# Altium footprint library Pattern No3d 20090609.PcbLib: 323 footprints (part 19 of 22)
Each footprint in its own frame and in the unit in brackets; x right, y up, seen from the top. Pads: shape width x height; smd on the part's side, far side on the other; paste and mask are expansions set on the pad; w line width, h text height; cw(c..) or ccw(c..) is an arc to the next point about the centre after c.
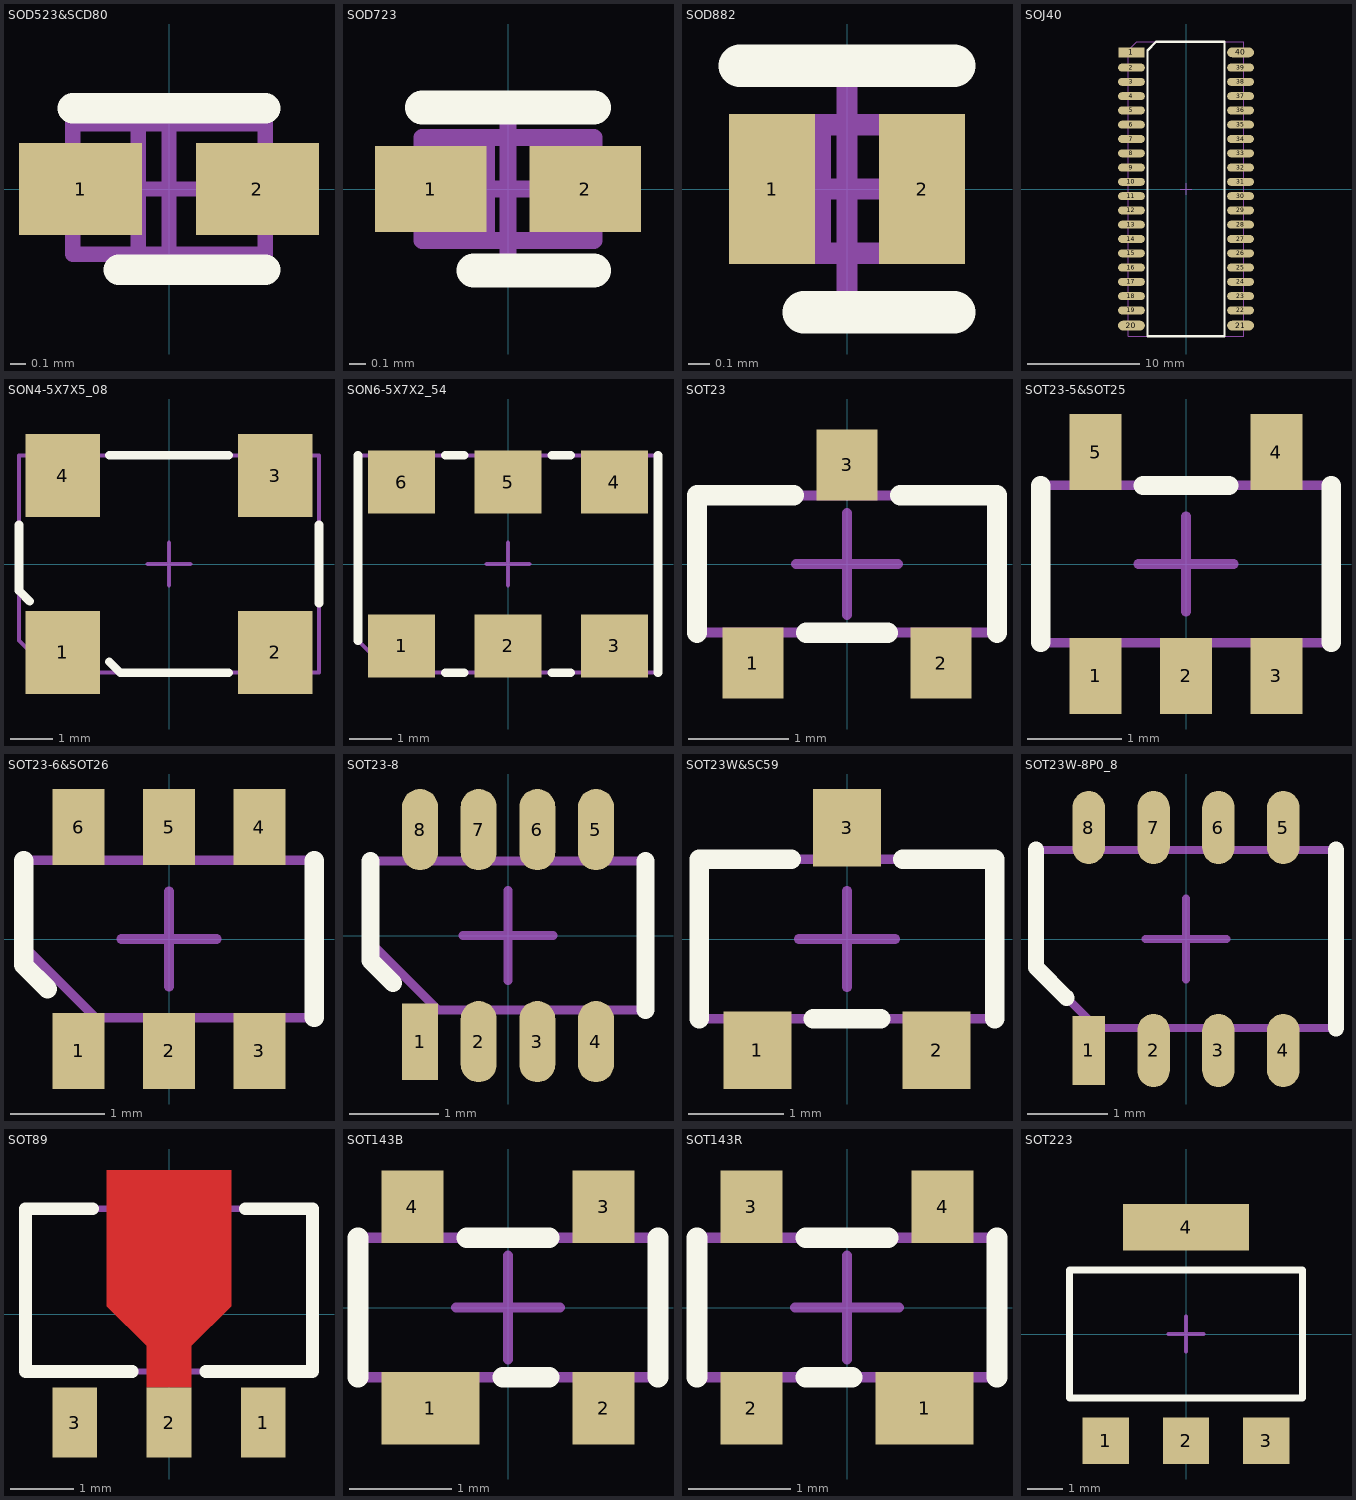
[diagram p18: the footprints below, top view; thin cyan lines are the x and y axes]

## SOD523&SCD80 [mil] "http://www.nxp.com/acrobat_download/packages/SOD523.pdf"
pads (2):
  rect 32x24 smd mask+3: 1(-23,0) 2(23,0)
Top Overlay:
  lines w8: -25,21 25,21 ; -13,-21 25,-21
Mechanical 1:
  lines w4: -8,-17 -8,17 ; -25,-17 25,-17 25,17 -25,17 -25,-17
Mechanical 15:
  lines w4: -20,0 20,0 ; 0,-20 0,20

## SOD723 [mil] "http://www.nxp.com/acrobat_download/packages/SOD723.pdf"
pads (2):
  rect 26x20 smd mask-1000: 1(-18,0) 2(18,0)
Top Overlay:
  lines w8: -20,19 20,19 ; -8,-19 20,-19
Top Solder:
  region: -35,-14 35,-14 35,14 -35,14
Mechanical 1:
  lines w4: -5,-12 -5,12 ; -20,-12 20,-12 20,12 -20,12 -20,-12
Mechanical 15:
  lines w4: -20,0 20,0 ; 0,-20 0,20

## SOD882 [mil] "http://www.nxp.com/acrobat_download/packages/SOD882.pdf"
pads (2):
  rect 16x28 smd mask+3: 1(-14,0) 2(14,0)
Top Overlay:
  lines w8: -20,23 20,23 ; -8,-23 20,-23
Mechanical 1:
  lines w4: -5,-12 -5,12 ; -20,-12 20,-12 20,12 -20,12 -20,-12
Mechanical 15:
  lines w4: -20,0 20,0 ; 0,-20 0,20

## SOJ40 [mil] "http://www.nxp.com/acrobat_download/packages/SOT449-1.pdf"
pads (40):
  rect 92x34 smd mask+4: 1(-191,478)
  oval 94x28 smd mask+4: 2(-191,425) 3(-191,375) 4(-191,325) 5(-191,275) 6(-191,225) 7(-191,175) 8(-191,125) 9(-191,75) 10(-191,25) 11(-191,-25) 12(-191,-75) 13(-191,-125) 14(-191,-175) 15(-191,-225) 16(-191,-275) 17(-191,-325) 18(-191,-375) 19(-191,-425) 22(191,-425) 23(191,-375) 24(191,-325) 25(191,-275) 26(191,-225) 27(191,-175) 28(191,-125) 29(191,-75) 30(191,-25) 31(191,25) 32(191,75) 33(191,125) 34(191,175) 35(191,225) 36(191,275) 37(191,325) 38(191,375) 39(191,425)
  oval 94x34 smd mask+4: 20(-191,-478) 21(191,-478) 40(191,478)
Top Overlay:
  lines w8: -135,-515 -135,485 -105,515 135,515 135,-515 -135,-515
Mechanical 1:
  lines w4: -202,-515 -202,485 -172,515 202,515 202,-515 -202,-515
Mechanical 15:
  lines w4: -20,0 20,0 ; 0,-20 0,20

## SON4-5X7X5_08 [mil] "http://www.jauch-shop.com/ablage-jauch/med_00000465_1187683673_VX3-TF-5V0.pdf"
pads (4):
  rect 70x78 smd mask+4: 1(-100,-83) 2(100,-83) 3(100,83) 4(-100,83)
Top Overlay:
  lines w8: -141,37 -141,-25 -131,-35 ; -56,-92 -46,-102 56,-102 ; -56,102 56,102 ; 141,-37 141,37
Mechanical 1:
  lines w4: -141,-72 -111,-102 141,-102 141,102 -141,102 -141,-72
Mechanical 15:
  lines w4: -20,0 20,0 ; 0,-20 0,20

## SON6-5X7X2_54 [mil] "http://fcp.rakon.com/pdf/cfpv-45_-46.pdf"
pads (6):
  rect 63x59 smd mask+4: 1(-100,-77) 2(0,-77) 3(100,-77) 4(100,77) 5(0,77) 6(-100,77)
Top Overlay:
  lines w8: -141,-72 -141,102 ; -59,-102 -41,-102 ; -59,102 -41,102 ; 41,-102 59,-102 ; 41,102 59,102 ; 141,-102 141,102
Mechanical 1:
  lines w4: -141,-72 -141,102 141,102 141,-102 -111,-102 -141,-72
Mechanical 15:
  lines w4: -20,0 20,0 ; 0,-20 0,20

## SOT23 [mil] "http://www.nxp.com/acrobat_download/packages/SOT23.pdf"
pads (3):
  rect 24x28 smd mask+4: 1(-37,-39) 2(37,-39) 3(0,39)
Top Overlay:
  lines w8: -59,-27 -59,27 -21,27 ; -16,-27 16,-27 ; 21,27 59,27 59,-27
Mechanical 1:
  lines w4: -59,-27 59,-27 59,27 -59,27 -59,-27
Mechanical 15:
  lines w4: -20,0 20,0 ; 0,-20 0,20

## SOT23-5&SOT25 [mil] "http://www.nxp.com/acrobat_download/packages/SOT753.pdf"
pads (5):
  rect 22x32 smd mask+4: 1(-38,-47) 2(0,-47) 3(38,-47) 4(38,47) 5(-38,47)
Top Overlay:
  lines w8: -61,-33 -61,33 ; -18,33 18,33 ; 61,-33 61,33
Mechanical 1:
  lines w4: -61,-33 -61,33 61,33 61,-33 -61,-33
Mechanical 15:
  lines w4: -20,0 20,0 ; 0,-20 0,20

## SOT23-6&SOT26 [mil] "http://www.nxp.com/acrobat_download/packages/SOT457.pdf"
pads (6):
  rect 22x32 smd mask+4: 1(-38,-47) 2(0,-47) 3(38,-47) 4(38,47) 5(0,47) 6(-38,47)
Top Overlay:
  lines w8: -61,33 -61,-11 -51,-21 ; 61,-33 61,33
Mechanical 1:
  lines w4: -61,-3 -61,33 61,33 61,-33 -31,-33 -61,-3
Mechanical 15:
  lines w4: -20,0 20,0 ; 0,-20 0,20

## SOT23-8 [mil] "http://www.vishay.com/docs/72207/72207.pdf"
pads (8):
  rect 16x34 smd mask-1000: 1(-39,-47)
  oval 16x36 smd mask-1000: 2(-13,-47) 3(13,-47) 4(39,-47) 5(39,47) 6(13,47) 7(-13,47) 8(-39,47)
Top Overlay:
  lines w8: -61,33 -61,-11 -51,-21 ; 61,-33 61,33
Top Solder:
  region: -29,-68 -29,-26 -51,-26 -51,-68
  lines w20: -39,34 -39,60 ; -13,-60 -13,-34 ; -13,34 -13,60 ; 13,-60 13,-34 ; 13,34 13,60 ; 39,-60 39,-34 ; 39,34 39,60
Mechanical 1:
  lines w4: -61,-3 -61,33 61,33 61,-33 -31,-33 -61,-3
Mechanical 15:
  lines w4: -20,0 20,0 ; 0,-20 0,20

## SOT23W&SC59 [mil] "http://www.nxp.com/acrobat_download/packages/SOT346.pdf"
pads (3):
  rect 28x32 smd mask+4: 1(-37,-46) 2(37,-46) 3(0,46)
Top Overlay:
  lines w8: -61,-33 -61,33 -23,33 ; -14,-33 14,-33 ; 23,33 61,33 61,-33
Mechanical 1:
  lines w4: -61,-33 -61,33 61,33 61,-33 -61,-33
Mechanical 15:
  lines w4: -20,0 20,0 ; 0,-20 0,20

## SOT23W-8P0_8 [mil] "http://www.national.com/packaging/mkt/mf08a.pdf"
pads (8):
  rect 16x34 smd mask+4: 1(-48,-55)
  oval 16x36 smd mask+4: 2(-16,-55) 3(16,-55) 4(48,-55) 5(48,55) 6(16,55) 7(-16,55) 8(-48,55)
Top Overlay:
  lines w8: -74,44 -74,-14 -59,-29 ; 74,-44 74,44
Mechanical 1:
  lines w4: -74,-14 -44,-44 74,-44 74,44 -74,44 -74,-14
Mechanical 15:
  lines w4: -20,0 20,0 ; 0,-20 0,20

## SOT89 [mil] "http://www.nxp.com/acrobat_download/packages/SOT89.pdf"
pads (3):
  rect 28x44 smd mask+4: 1(59,-68) 3(-59,-68)
  rect 28x44 smd mask-1000: 2(0,-68)
Top Layer:
  region: -14,-46 14,-46 14,-20 39,5 39,90 -39,90 -39,5 -14,-20
Top Overlay:
  lines w8: -48,66 -90,66 -90,-36 -23,-36 ; 23,-36 90,-36 90,66 48,66
Top Paste:
  region: -37,54 37,54 37,88 -37,88
  region: -23,1 23,1 23,47 -23,47
Top Solder:
  region: 18,-22 43,3 43,94 -43,94 -43,3 -18,-22 -18,-94 18,-94
Mechanical 1:
  lines w4: -90,-36 -90,66 90,66 90,-36 -90,-36
Mechanical 15:
  lines w4: -20,0 20,0 ; 0,-20 0,20

## SOT143B [mil] "http://www.nxp.com/acrobat_download/packages/SOT143B.pdf"
pads (4):
  rect 38x28 smd mask+4: 1(-30,-39)
  rect 24x28 smd mask+4: 2(37,-39) 3(37,39) 4(-37,39)
Top Overlay:
  lines w8: -58,-27 -58,27 ; -16,27 16,27 ; -2,-27 16,-27 ; 58,-27 58,27
Mechanical 1:
  lines w4: -58,-27 -58,27 58,27 58,-27 -58,-27
Mechanical 15:
  lines w4: -20,0 20,0 ; 0,-20 0,20

## SOT143R [mil] "http://www.nxp.com/acrobat_download/packages/SOT143R.pdf"
pads (4):
  rect 38x28 smd mask+4: 1(30,-39)
  rect 24x28 smd mask+4: 2(-37,-39) 3(-37,39) 4(37,39)
Top Overlay:
  lines w8: -58,-27 -58,27 ; -16,-27 2,-27 ; -16,27 16,27 ; 58,-27 58,27
Mechanical 1:
  lines w4: -58,-27 -58,27 58,27 58,-27 -58,-27
Mechanical 15:
  lines w4: -20,0 20,0 ; 0,-20 0,20

## SOT223 [mil] "http://www.nxp.com/acrobat_download/packages/SOT223.pdf"
pads (4):
  rect 52x52 smd mask+4: 1(-90,-120) 2(0,-120) 3(90,-120)
  rect 142x52 smd mask+4: 4(0,120)
Top Overlay:
  lines w8: -131,-72 -131,72 131,72 131,-72 -131,-72
Mechanical 1:
  lines w4: -131,-72 -131,72 131,72 131,-72 -131,-72
Mechanical 15:
  lines w4: -20,0 20,0 ; 0,-20 0,20